# EAGLE library part FT232RL (library IC)
USB UART IC Source: http://www.ftdichip.com/Documents/DataSheets/DS_FT232R_v104.pdf
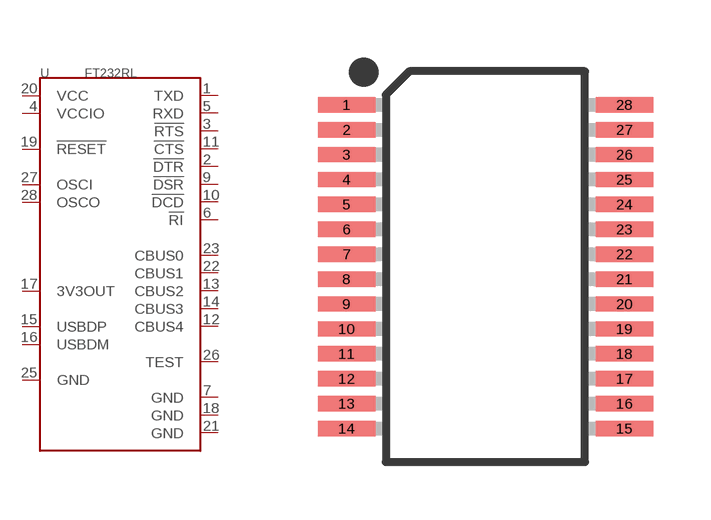
[diagram p12: symbol with the pads of SSOP28; footprint SSOP28]

Designator prefix U

## FT232RL-1720010P1  [SSOP28]
1  TXD  in
2  !DTR  in
3  !RTS  in
4  VCCIO  in
5  RXD  in
6  !RI  in
7  GND  in
9  !DSR  in
10  !DCD  in
11  !CTS  in
12  CBUS4  in
13  CBUS2  in
14  CBUS3  in
15  USBDP  in
16  USBDM  in
17  3V3OUT  in
18  GND  in
19  !RESET  in
20  VCC  in
21  GND  in
22  CBUS1  in
23  CBUS0  in
25  GND  in
26  TEST  in
27  OSCI  in
28  OSCO  in

## Footprint SSOP28 (pad centres in mm)
Shrink Small Outline Package SSOP-28 http://www.ftdichip.com/Documents/DataSheets/DS_FT232R_v104.pdf
smd 1.5 x 0.4: 1 -3.625,4.225; 2 -3.625,3.575; 3 -3.625,2.925; 4 -3.625,2.275; 5 -3.625,1.625; 6 -3.625,0.975; 7 -3.625,0.325; 8 -3.625,-0.325; 9 -3.625,-0.975; 10 -3.625,-1.625; 11 -3.625,-2.275; 12 -3.625,-2.925; 13 -3.625,-3.575; 14 -3.625,-4.225; 15 3.625,-4.225; 16 3.625,-3.575; 17 3.625,-2.925; 18 3.625,-2.275; 19 3.625,-1.625; 20 3.625,-0.975; 21 3.625,-0.325; 22 3.625,0.325; 23 3.625,0.975; 24 3.625,1.625; 25 3.625,2.275; 26 3.625,2.925; 27 3.625,3.575; 28 3.625,4.225